# EAGLE library part LT1394 (library Jim)
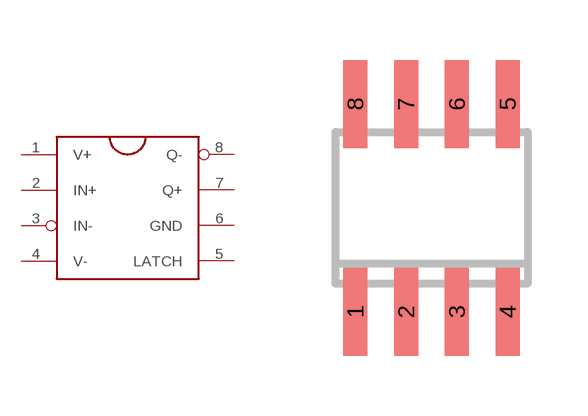
[diagram p7: symbol with the pads of SOIC-8; footprint SOIC-8]

Designator prefix -

## LT1394  [SOIC-8]
1  V+  pwr
2  IN+  in
3  IN-  in
4  V-  pwr
5  LATCH  in
6  GND  pwr
7  Q+  out
8  Q-  out

## Footprint SOIC-8 (pad centres in mm)
smd 0.6 x 2.2: 1 -1.905,-2.6; 2 -0.635,-2.6; 3 0.635,-2.6; 4 1.905,-2.6; 5 1.905,2.6; 6 0.635,2.6; 7 -0.635,2.6; 8 -1.905,2.6